# Altium schematic symbol library Power_Lib_Altium.SchLib: 142 symbols (part 1 of 2)
Pins are listed as number, name and electrical type; pins without a type are passive.

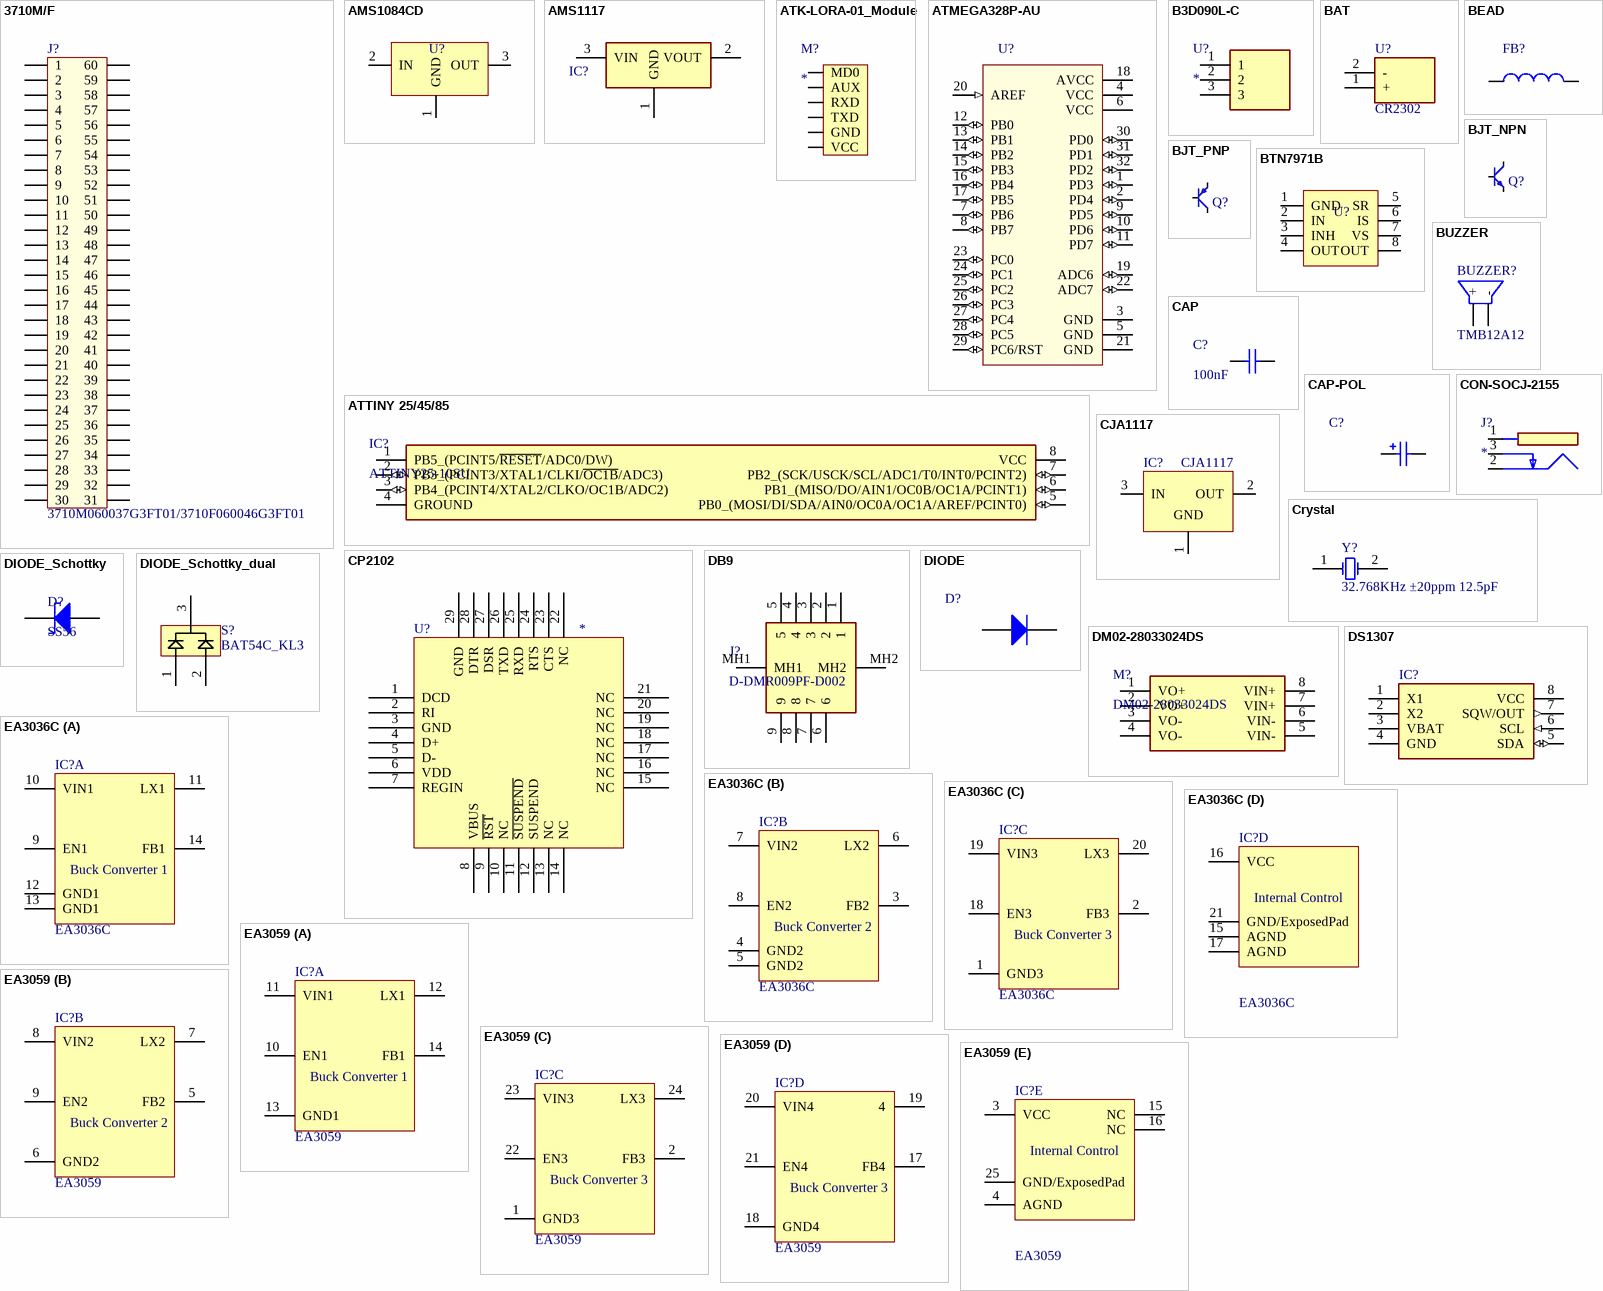
[diagram p0: symbols 3710M/F to EA3059]

## 3710M/F
designator J?, comment 3710M060037G3FT01/3710F060046G3FT01
B2B Connector
footprint 3710M060037G3FT01
footprint 3710F060046G3FT01
pins: 1, 2, 3, 4, 5, 6, 7, 8, 9, 10, 11, 12, 13, 14, 15, 16, 17, 18, 19, 20, 21, 22, 23, 24, 25, 26, 27, 28, 29, 30, 31, 32, 33, 34, 35, 36, 37, 38, 39, 40, 41, 42, 43, 44, 45, 46, 47, 48, 49, 50, 51, 52, 53, 54, 55, 56, 57, 58, 59, 60

## AMS1084CD
designator U?  (value not drawn)
固定稳压输出（TO-252）
footprint TO-252 (贴片MOS管)
pins: 1 GND, 2 IN, 3 OUT

## AMS1117
designator IC?  (value not drawn)
线性稳压; Manufacturer_Name: Nexperia; Manufacturer_Part_Number: SI2302DS; Datasheet Link: https://assets.nexperia.com/documents/data-sheet/SI2302DS.pdf; Height: 1.1mm; Mouser Part Number: N/A; Mouser Price/Stock: https://www.mouser.com/Search/Refine.aspx?Keyword=N%2FA; RS Part Number: 7983053P; RS Price/Stock: http://uk.rs-online.com/web/p/products/7983053P
footprint SOT-223
pins: 1 GND, 2 VOUT, 3 VIN

## ATK-LORA-01_Module
designator M?
正点原子Lora模块
footprint ATK-LORA-01_Module (正点原子Lora模块)
pins: 1 MD0, 2 AUX, 3 RXD, 4 TXD, 5 GND, 6 VCC

## ATMEGA328P-AU
designator U?  (value not drawn)
微控制器, 8 Bit, Atmega, 20mhz, Tqfp-32; MF: Microchip; MP: ATMEGA328P-AU; SnapEDA_Link: https://www.snapeda.com/parts/ATMEGA328P-AU/Microchip/view-part/?ref=snap; Availability: Unavailable; Price: None; Package: TQFP-32 Microchip; Value: *
footprint TQFP-32_7x7x08P
pins: 1 PD3 (io), 2 PD4 (io), 3 GND (power), 4 VCC (power), 5 GND (power), 6 VCC (power), 7 PB6 (io), 8 PB7 (io), 9 PD5 (io), 10 PD6 (io), 11 PD7 (io), 12 PB0 (io), 13 PB1 (io), 14 PB2 (io), 15 PB3 (io), 16 PB4 (io), 17 PB5 (io), 18 AVCC (power), 19 ADC6 (io), 20 AREF (in), 21 GND (power), 22 ADC7 (io), 23 PC0 (io), 24 PC1 (io), 25 PC2 (io), 26 PC3 (io), 27 PC4 (io), 28 PC5 (io), 29 PC6/RST (io), 30 PD0 (io), 31 PD1 (io), 32 PD2 (io)

## ATTINY 25/45/85
designator IC?, comment ATTINY25-10SU
主控芯片; Manufacturer_Name: Microchip; Manufacturer_Part_Number: ATTINY85-20PU; Datasheet Link: https://componentsearchengine.com/Datasheets/2/ATTINY85-20PU.pdf; Height: 5.334mm; Mouser Part Number: 556-ATTINY85-20PU; Mouser Price/Stock: https://www.mouser.com/Search/Refine.aspx?Keyword=556-ATTINY85-20PU; RS Part Number: 1331672P; RS Price/Stock: http://uk.rs-online.com/web/p/products/1331672P
footprint DIP-8
footprint SOIC_8
pins: 1 PB5_(PCINT5/~{RESET}/ADC0/DW), 2 PB3_(PCINT3/XTAL1/CLKI/~{OC1B}/ADC3) (io), 3 PB4_(PCINT4/XTAL2/CLKO/OC1B/ADC2) (io), 4 GROUND (power), 5 PB0_(MOSI/DI/SDA/AIN0/OC0A/OC1A/AREF/PCINT0) (io), 6 PB1_(MISO/DO/AIN1/OC0B/OC1A/PCINT1) (io), 7 PB2_(SCK/USCK/SCL/ADC1/T0/INT0/PCINT2) (io), 8 VCC (power)

## B3D090L-C
designator U?
放电管; Manufacturer_Name: Bencent; Manufacturer_Part_Number: B3D090L-C; Datasheet Link: http://www.bencent.com.cn/index/xiazai/name/_pdf_B3D090L-C.pdf; Height: 6.1mm
footprint B3D090LC
pins: 1, 2, 3

## BAT
designator U?, comment CR2302
锂电池; Manufacturer_Name: Keystone Electronics; Manufacturer_Part_Number: 1026; Allied_Number: 70182086; Datasheet Link: http://www.keyelco.com/product-pdf.cfm?p=721; Mouser Part Number: 534-1026; Mouser Price/Stock: https://www.mouser.com/Search/Refine.aspx?Keyword=534-1026; RS Part Number: 1142133; RS Price/Stock: http://uk.rs-online.com/web/p/products/1142133; Allied Price/Stock: http://www.alliedelec.com/keystone-electronics-1026/70182086/
footprint CR2032-1
pins: 1 +, 2 -

## BEAD
designator FB?, comment 120R@100MHz  (value not drawn)
BLM15AG121SN1D; ComponentLink1Description: 供应商链接; ComponentLink1URL: http://www.szlcsc.com/product/details_33003.html; Package: 0402; Supplier: LC; SuppliersPartNumber: C32041
footprint L-0603
footprint R-0402
footprint CAP-0402
pins: 1, 2

## BJT_NPN
designator Q?, comment S8050  (value not drawn)
晶体管
footprint SOT-23-3
pins: 1 B, 2 E, 3 C

## BJT_PNP
designator Q?
晶体管
footprint SOT-23-3
pins: 1 B, 2 E, 3 C

## BTN7971B
designator U?  (value not drawn)
半桥 MOS
footprint TO-263-7
pins: 1 GND, 2 IN, 3 INH, 4 OUT, 5 SR, 6 IS, 7 VS, 8 OUT

## BUZZER
designator BUZZER?, comment TMB12A12
TMB12A12 有源蜂鸣器
footprint DIP,P=7.0mm
footprint DIP,P=7.6mm
pins: 1 +, 2 -

## CAP
designator C?, comment 100nF
贴片电容; ComponentLink1Description: 供应商链接; ComponentLink1URL: http://www.szlcsc.com/product/details_53938.html; Package: 0402; Supplier: LC; SuppliersPartNumber: C52923
footprint CAP-0603
footprint CAP-0805
footprint CAP-1206 (贴片元件)
footprint CAP-1210 (贴片电容)
footprint CAP-5750
footprint CAP-2220
footprint CAP-0402
pins: 1, 2

## CAP-POL
designator C?, comment 100nF  (value not drawn)
贴片电容-有极性; ComponentLink1Description: 供应商链接; ComponentLink1URL: http://www.szlcsc.com/product/details_16815.html; Package: 3528; Supplier: LC; SuppliersPartNumber: C16133
footprint CAP-AUX-3216 (钽电容1206大小)
footprint CAP-AUX-7343 (贴片7343钽电容)
footprint C_SMD-6X6
footprint C_SMD-8X6
footprint C_SMD-8X10
footprint C_SMD-10x10
footprint C_SMD-10x13
footprint CASE-B_3528
footprint CASE-C_6032
footprint CAP-2.5*6.3*11.2-H - GD (脚距2.5mm直径6.3mm高度11.2mm)
footprint CM D(6.3*5.4) (贴片电解电容，直径6.3mm，高5.4mm)
footprint CS 2.5*6.3*7 - C (½Å¾à2.5mm , Ö±¾¶6.3mm , ¸ß7mm)
footprint CS 5.0*10*13 - C (½Å¾à5mm , Ö±¾¶10mm , ¸ß13mm)
pins: 1, 2

## CJA1117
designator IC?
稳压芯片
footprint SOT-89-3
pins: 1 GND, 2 OUT, 3 IN

## CON-SOCJ-2155
designator J?
Connector; Manufacturer_Name: Gravitech; Manufacturer_Part_Number: CON-SOCJ-2155; Datasheet Link: http://www.produktinfo.conrad.com/datenblaetter/1500000-1599999/001582350-da-01-en-DC_EINBAUBUCHSE__SCHALTER_GESCHLOSSEN.pdf; Height: 11mm; Mouser Part Number: 992-CON-SOCJ-2155; Mouser Price/Stock: https://www.mouser.com/Search/Refine.aspx?Keyword=992-CON-SOCJ-2155
footprint CONSOCJ2155
pins: 1, 2, 3

## CP2102
designator U?
USB to UART
footprint QFN28
pins: 1 DCD, 2 RI, 3 GND, 4 D+, 5 D-, 6 VDD, 7 REGIN, 8 VBUS, 9 ~{RST}, 10 NC, 11 ~{SUSPEND}, 12 SUSPEND, 13 NC, 14 NC, 15 NC, 16 NC, 17 NC, 18 NC, 19 NC, 20 NC, 21 NC, 22 NC, 23 CTS, 24 RTS, 25 RXD, 26 TXD, 27 DSR, 28 DTR, 29 GND

## Crystal
designator Y?, comment 32.768KHz ±20ppm 12.5pF
无源晶振; ComponentLink1Description: 供应商链接; ComponentLink1URL: http://www.szlcsc.com/product/details_33310.html; Package: SMD-3215_2P; Supplier: LC; SuppliersPartNumber: C32346
footprint SMD-3215_2P FC - 135
footprint SMD5032-2P
pins: 1 OSC1, 2 OSC2

## DB9
designator J?, comment D-DMR009PF-D002
D-Sub 连接器; Manufacturer_Name: TE Connectivity; Manufacturer_Part_Number: 5747844-5; Datasheet Link: http://www.te.com/commerce/DocumentDelivery/DDEController?Action=srchrtrv&DocNm=82068_AMPLIMITE_Right-Angle_Posted_Conn&DocType=Catalog+Section&DocLang=English&PartCntxt=; Height: 12.9286mm; Mouser Part Number: 571-5747844-5; Mouser Price/Stock: https://www.mouser.co.uk/ProductDetail/TE-Connectivity/5747844-5?qs=x6EjVpvqMVPrkQsJHUlJGw%3D%3D; Arrow Part Number: 5747844-5; Arrow Price/Stock: https://www.arrow.com/en/products/5747844-5/te-connectivity
footprint Through Hole,P=2.77mm
pins: 1, 2, 3, 4, 5, 6, 7, 8, 9, MH1, MH2

## DIODE
designator D?, comment SS14  (value not drawn)
二极管; ComponentLink1Description: 供应商链接; ComponentLink1URL: http://www.szlcsc.com/product/details_23178.html; Package: SMA(DO-214AC); Supplier: LC; SuppliersPartNumber: C22452
footprint SOD_123
footprint DO-214AA/SMB
footprint DO-214AB/SMC
footprint DO-214AC/SMA
footprint SOD_323
pins: 1 A, 2 K

## DIODE_Schottky
designator D?, comment SS56
肖特基二极管
footprint DO-214AB/SMC
pins: 1 A, 2 K

## DIODE_Schottky_dual
designator S?, comment BAT54C_KL3
双肖特基二极管
footprint SOT-23-3
pins: 1, 2, 3

## DM02-28033024DS
designator M?
集成稳压模块 / https://item.taobao.com/item.htm?spm=a1z10.3-c-s.w4002-22292591445.10.2a59194fEhZETQ&id=535347655147
footprint DM02-28033024DS
pins: 1 VO+, 2 VO+, 3 VO- (power), 4 VO- (power), 5 VIN-, 6 VIN-, 7 VIN+, 8 VIN+ (power)

## DS1307
designator IC?  (value not drawn)
Integrated Circuit; Manufacturer_Name: Maxim Integrated; Manufacturer_Part_Number: DS1307+; Datasheet Link: http://datasheets.maximintegrated.com/en/ds/DS1307.pdf; Height: 4.572mm; Mouser Part Number: 700-DS1307; Mouser Price/Stock: https://www.mouser.com/Search/Refine.aspx?Keyword=700-DS1307; RS Part Number: 1898457; RS Price/Stock: http://uk.rs-online.com/web/p/products/1898457
footprint SOIC_8
pins: 1 X1, 2 X2, 3 VBAT (power), 4 GND (power), 5 SDA (io), 6 SCL (in), 7 SQW/OUT (out), 8 VCC (power)

## EA3036C
designator IC?
EA3036 is a 3CH power management IC for applications powered by one Li-Ion battery or a DC 5V adapter.
footprint QFN3mmx3mm-20
part A pins: 9 EN1 "CH1 turns on/turns off control input. Don’t leave this pin floating.", 10 VIN1 (power) "Power input pin of CH1. Recommended to use a 10uF MLCC capacitor between VIN1 pin and GND1 pin.", 11 LX1 "Internal MOSFET switching output of CH1. Connect LX1 pin with a low pass filter circuit to obtain a stable DC output voltage.", 12 GND1 (power) "Power ground pin of CH1.", 13 GND1 (power) "Power ground pin of CH1.", 14 FB1 "Feedback input of CH1. Connect to output voltage with a resistor divider."
part B pins: 3 FB2 "Feedback input of CH2. Connect to output voltage with a resistor divider.", 4 GND2 (power) "Power ground pin of CH2.", 5 GND2 (power) "Power ground pin of CH2.", 6 LX2 "Internal MOSFET switching output of CH2. Connect LX2 pin with a low pass filter circuit to obtain a stable DC output voltage.", 7 VIN2 (power) "Power input pin of CH2. Recommended to use a 10uF MLCC capacitor between VIN2 pin and GND2 pin.", 8 EN2 "CH2 turns on/turns off control input. Don’t leave this pin floating."
part C pins: 1 GND3 (power) "Power ground pin of CH3.", 2 FB3 "Feedback input of CH3. Connect to output voltage with a resistor divider.", 18 EN3 "CH3 turns on/turns off control input. Don’t leave this pin floating.", 19 VIN3 (power) "Power input pin of CH3. Recommended to use a 10uF MLCC capacitor between VIN3 pin and GND3 pin.", 20 LX3 "Internal MOSFET switching output of CH3. Connect SW3 pin with a low pass filter circuit to obtain a stable DC output voltage."
part D pins: 15 AGND (power) "Analog ground pin.", 16 VCC (power) "Input supply pin for internal control circuit.", 17 AGND (power) "Analog ground pin.", 21 GND/ExposedPad (power) "The Exposed Pad must be soldered to a large PCB copper plane and connected to GND for appropriate dissipation."
part A text: Buck Converter 1
part B text: Buck Converter 2
part C text: Buck Converter 3
part D text: Internal Control

## EA3059
designator IC?
4CH PMIC
footprint QFN-24-4x4 (QFN, 24-Leads, Body 4.00x4.00mm, Pitch 0.50mm, Thermal Pad 2.70x2.60mm, IPC Medium Density)
part A pins: 10 EN1 "CH1 turns on/turns off control input. Don’t leave this pin floating.", 11 VIN1 (power) "Power input pin of CH1. Recommended to use a 10uF MLCC capacitor between VIN1 pin and GND1 pin.", 12 LX1 "Internal MOSFET switching output of CH1. Connect LX1 pin with a low pass filter circuit to obtain a stable DC output voltage.", 13 GND1 (power) "Power ground pin of CH1.", 14 FB1 "Feedback input of CH1. Connect to output voltage with a resistor divider."
part B pins: 5 FB2 "Feedback input of CH2. Connect to output voltage with a resistor divider.", 6 GND2 (power) "Power ground pin of CH2.", 7 LX2 "Internal MOSFET switching output of CH2. Connect LX2 pin with a low pass filter circuit to obtain a stable DC output voltage.", 8 VIN2 (power) "Power input pin of CH2. Recommended to use a 10uF MLCC capacitor between VIN2 pin and GND2 pin.", 9 EN2 "CH2 turns on/turns off control input. Don’t leave this pin floating."
part C pins: 1 GND3 (power) "Power ground pin of CH3.", 2 FB3 "Feedback input of CH3. Connect to output voltage with a resistor divider.", 22 EN3 "CH3 turns on/turns off control input. Don’t leave this pin floating.", 23 VIN3 (power) "Power input pin of CH3. Recommended to use a 10uF MLCC capacitor between VIN3 pin and GND3 pin.", 24 LX3 "Internal MOSFET switching output of CH3. Connect SW3 pin with a low pass filter circuit to obtain a stable DC output voltage."
part D pins: 17 FB4 "Feedback input of CH3. Connect to output voltage with a resistor divider.", 18 GND4 (power) "Power ground pin of CH3.", 19 4 "Internal MOSFET switching output of CH3. Connect SW3 pin with a low pass filter circuit to obtain a stable DC output voltage.", 20 VIN4 (power) "Power input pin of CH3. Recommended to use a 10uF MLCC capacitor between VIN3 pin and GND3 pin.", 21 EN4 "CH3 turns on/turns off control input. Don’t leave this pin floating."
part E pins: 3 VCC (power) "Input supply pin for internal control circuit.", 4 AGND (power) "Analog ground pin.", 15 NC (power) "Analog ground pin.", 16 NC (power) "Analog ground pin.", 25 GND/ExposedPad (power) "The Exposed Pad must be soldered to a large PCB copper plane and connected to GND for appropriate dissipation."
part A text: Buck Converter 1
part B text: Buck Converter 2
part C text: Buck Converter 3
part D text: Buck Converter 3
part E text: Internal Control

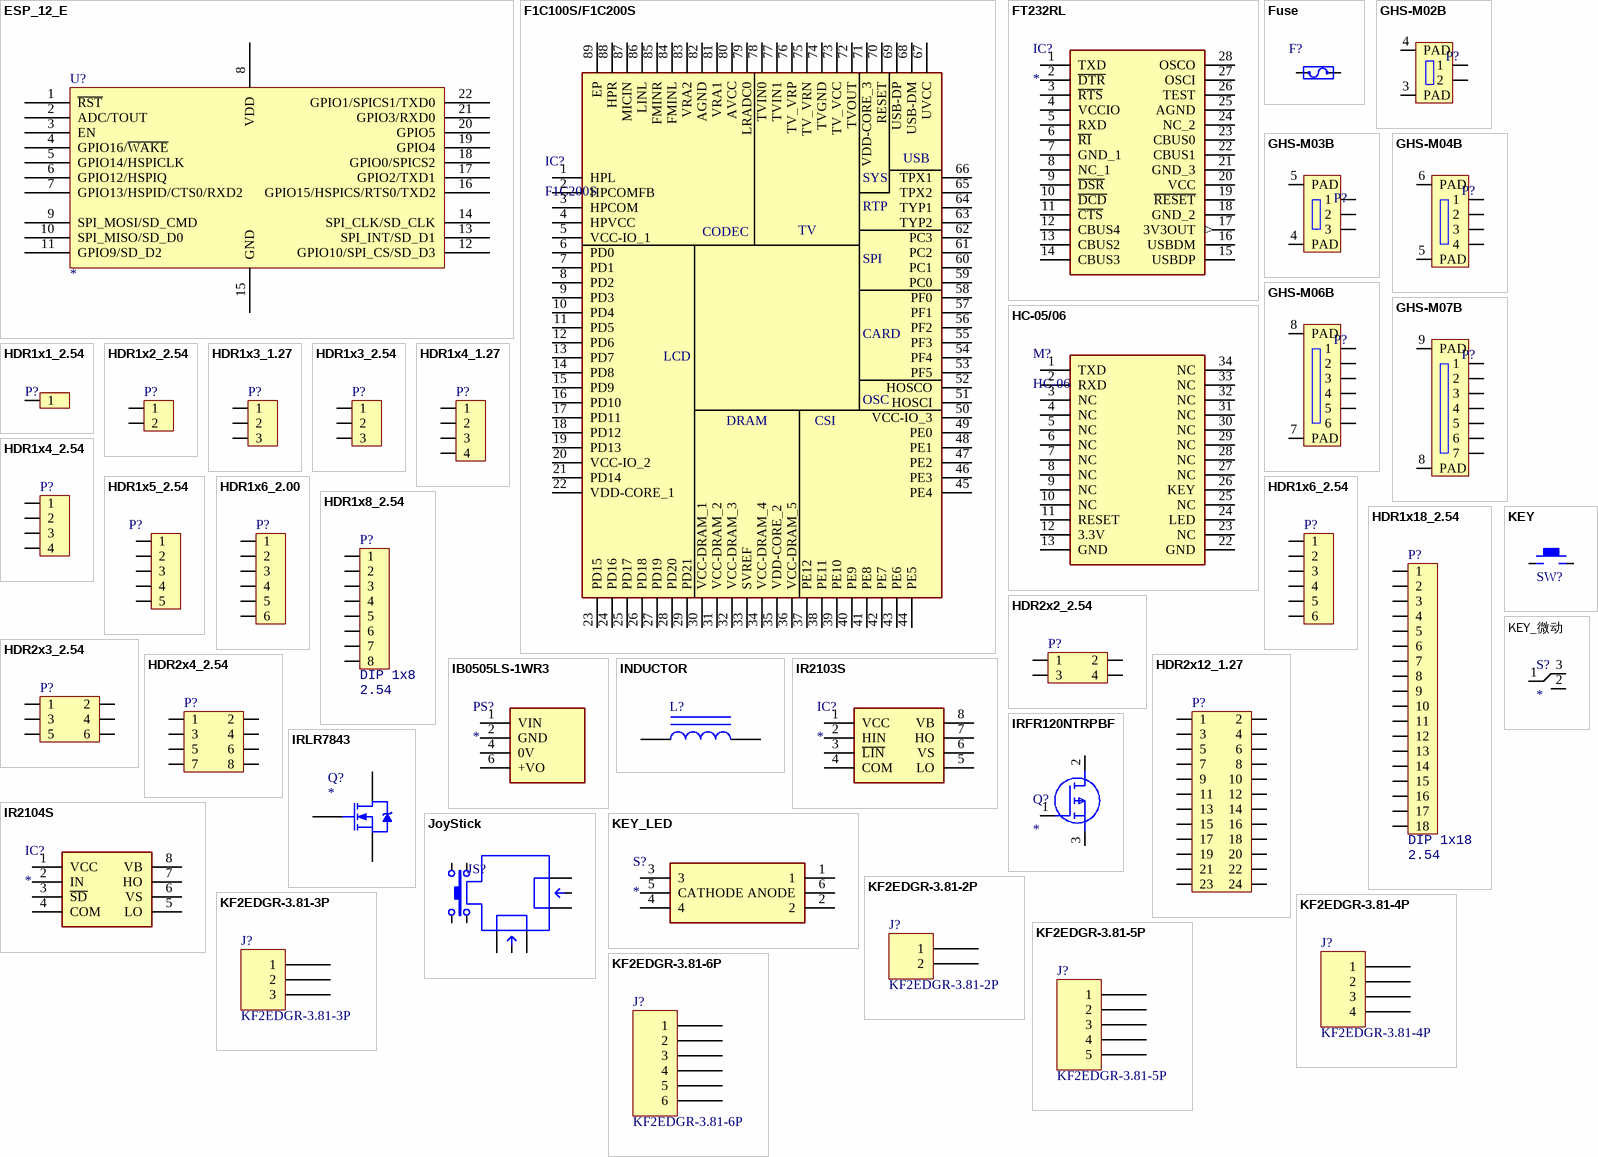
[diagram p1: symbols ESP_12_E to KF2EDGR-3.81-6P]

## ESP_12_E
designator U?
ESP-12 Wi-Fi Module by AI-Thinker; IC: ESP8266-EX; Vendor: Ai-thinker
footprint ESP_12_E_L (ESP-12 Wi-Fi Module by AI-Thinker)
pins: 1 ~{RST} "Reset", 2 ADC/TOUT "ADC Input Or TOUT Output", 3 EN "Chip enable", 4 GPIO16/~{WAKE} "GPIO16 or Deep-Sleep Wakeup", 5 GPIO14/HSPICLK "GPIO14 or SPI CLK", 6 GPIO12/HSPIQ "GPIO12 or SPIQ", 7 GPIO13/HSPID/CTS0/RXD2 "GPIO13 or SPID", 8 VDD "Power supply", 9 SPI_MOSI/SD_CMD "GPIO14 or SPI CLK", 10 SPI_MISO/SD_D0 "GPIO12 or SPIQ", 11 GPIO9/SD_D2 "GPIO13 or SPID", 12 GPIO10/SPI_CS/SD_D3 "GPIO15 or SPICS", 13 SPI_INT/SD_D1 "GPIO2 or TX", 14 SPI_CLK/SD_CLK "GPIO0 or SPICS2", 15 GND "Power ground", 16 GPIO15/HSPICS/RTS0/TXD2 "GPIO15 or SPICS", 17 GPIO2/TXD1 "GPIO2 or TX", 18 GPIO0/SPICS2 "GPIO0 or SPICS2", 19 GPIO4 "GPIO5", 20 GPIO5 "GPIO4", 21 GPIO3/RXD0 "GPIO3 or UART RXD", 22 GPIO1/SPICS1/TXD0 "GPIO1 or UART TXD"

## F1C100S/F1C200S
designator IC?, comment F1C200S
SOC; Manufacturer_Name: Allwinner Technology; Datasheet Link: https://linux-sunxi.org/images/1/11/Allwinner_F1C200s_Datasheet_V1.0.pdf; Height: 0.9mm; Manufacturer_Part_Number: F1C200S
footprint QFN88P_10X10mm
pins: 1 HPL, 2 HPCOMFB, 3 HPCOM, 4 HPVCC, 5 VCC-IO_1, 6 PD0, 7 PD1, 8 PD2, 9 PD3, 10 PD4, 11 PD5, 12 PD6, 13 PD7, 14 PD8, 15 PD9, 16 PD10, 17 PD11, 18 PD12, 19 PD13, 20 VCC-IO_2, 21 PD14, 22 VDD-CORE_1, 23 PD15, 24 PD16, 25 PD17, 26 PD18, 27 PD19, 28 PD20, 29 PD21, 30 VCC-DRAM_1, 31 VCC-DRAM_2, 32 VCC-DRAM_3, 33 SVREF, 34 VCC-DRAM_4, 35 VDD-CORE_2, 36 VCC-DRAM_5, 37 PE12, 38 PE11, 39 PE10, 40 PE9, 41 PE8, 42 PE7, 43 PE6, 44 PE5, 45 PE4, 46 PE3, 47 PE2, 48 PE1, 49 PE0, 50 VCC-IO_3, 51 HOSCI, 52 HOSCO, 53 PF5, 54 PF4, 55 PF3, 56 PF2, 57 PF1, 58 PF0, 59 PC0, 60 PC1, 61 PC2, 62 PC3, 63 TYP2, 64 TYP1, 65 TPX2, 66 TPX1, 67 UVCC, 68 USB-DM, 69 USB-DP, 70 RESET, 71 VDD-CORE_3, 72 TVOUT, 73 TV_VCC, 74 TVGND, 75 TV_VRN, 76 TV_VRP, 77 TVIN1, 78 TVIN0, 79 LRADC0, 80 AVCC, 81 VRA1, 82 AGND, 83 VRA2, 84 FMINL, 85 FMINR, 86 LINL, 87 MICIN, 88 HPR, 89 EP
text: USB; SYS; RTP; CODEC; TV; SPI; CARD; LCD; OSC; DRAM; CSI

## FT232RL
designator IC?
USB to UART; Manufacturer_Name: FTDI Chip; Manufacturer_Part_Number: FT232RL; Datasheet Link: http://www.ftdichip.com/Support/Documents/DataSheets/ICs/DS_FT232R.pdf; Height: 2mm; RS Part Number: 0406580P; RS Price/Stock: http://uk.rs-online.com/web/p/products/0406580P
footprint SSOP
pins: 1 TXD, 2 ~{DTR}, 3 ~{RTS}, 4 VCCIO (power), 5 RXD, 6 ~{RI}, 7 GND_1 (power), 8 NC_1, 9 ~{DSR}, 10 ~{DCD}, 11 ~{CTS}, 12 CBUS4, 13 CBUS2, 14 CBUS3, 15 USBDP, 16 USBDM, 17 3V3OUT (out), 18 GND_2 (power), 19 ~{RESET}, 20 VCC (power), 21 GND_3 (power), 22 CBUS1, 23 CBUS0, 24 NC_2, 25 AGND (power), 26 TEST, 27 OSCI, 28 OSCO

## Fuse
designator F?  (value not drawn)
保险丝
footprint Fuse_0805 (500mA保险丝)
footprint FUSE_1206
footprint R-0603
footprint FUSE_1808 (1808/2410保险丝座)
pins: 1, 2

## GHS-M02B
designator P?, comment GH02  (value not drawn)
GH 座
footprint BM02B-GHS-TBT (GH02立式)
footprint SM02B-GHS-TB (GH02卧式)
pins: 1, 2, 3 PAD, 4 PAD

## GHS-M03B
designator P?, comment GH03  (value not drawn)
GH座
footprint BM03B-GHS-TBT (GH03立式)
footprint SM03B-GHS-TB (GH03卧式)
pins: 1, 2, 3, 4 PAD, 5 PAD

## GHS-M04B
designator P?, comment GH04  (value not drawn)
GH 座
footprint BM04B-GHS-TBT (GH04立式)
footprint SM04B-GHS-TB (GH04卧式)
pins: 1, 2, 3, 4, 5 PAD, 6 PAD

## GHS-M06B
designator P?, comment GH06  (value not drawn)
GH 座
footprint BM06B-GHS-TBT (GH06立式)
footprint SM06B-GHS-TB (GH06卧式)
pins: 1, 2, 3, 4, 5, 6, 7 PAD, 8 PAD

## GHS-M07B
designator P?, comment GH07  (value not drawn)
GH 座
footprint BM07B-GHS-TBT (Footprint not found)
footprint SM07B-GHS-TB (GH07卧式)
pins: 1, 2, 3, 4, 5, 6, 7, 8 PAD, 9 PAD

## HC-05/06
designator M?, comment HC-06
HC05/06 蓝牙模块（贴片）; Manufacturer_Name: FTDI Chip; Manufacturer_Part_Number: FT232RL; Datasheet Link: http://www.ftdichip.com/Support/Documents/DataSheets/ICs/DS_FT232R.pdf; Height: 2mm; RS Part Number: 0406580P; RS Price/Stock: http://uk.rs-online.com/web/p/products/0406580P
footprint HC-05/06/08V15
pins: 1 TXD, 2 RXD, 3 NC, 4 NC (power), 5 NC, 6 NC, 7 NC (power), 8 NC, 9 NC, 10 NC, 11 RESET, 12 3.3V, 13 GND, 22 GND, 23 NC, 24 LED, 25 NC, 26 KEY, 27 NC, 28 NC, 29 NC, 30 NC, 31 NC, 32 NC, 33 NC, 34 NC

## HDR1x1_2.54
designator P?, comment HDR1x2_2.54  (value not drawn)
Header
footprint HDR1X1_2.54
pins: 1

## HDR1x2_2.54
designator P?  (value not drawn)
Header
footprint HDR1X2_2.54_90
footprint HDR1X2_2.54_90F
footprint HDR1X2_2.54_180
footprint HDR1X2_2.54_180F
footprint HDR1X2_2.54_180H
footprint HDR1X2_2.54_180HD
pins: 1, 2

## HDR1x3_1.27
designator P?  (value not drawn)
Header
footprint HDR1X3_1.27_180
footprint HDR1X3_1.27_180HF
pins: 1, 2, 3

## HDR1x3_2.54
designator P?  (value not drawn)
Header
footprint HDR1X3_2.54_90
footprint HDR1X3_2.54_90F
footprint HDR1X3_2.54_180
footprint HDR1X3_2.54_180F
footprint XH_3
footprint XH_3-sleep
footprint XH3AW
pins: 1, 2, 3

## HDR1x4_1.27
designator P?  (value not drawn)
Header
footprint HDR1X4_1.27_180
footprint HDR1X4_1.27_180F
footprint HDR1X4_1.27_180H
footprint HDR1X4_1.27_180HF
pins: 1, 2, 3, 4

## HDR1x4_2.54
designator P?  (value not drawn)
Header
footprint HDR1X4_2.54_90
footprint HDR1X4_2.54_90F
footprint HDR1x4_2.54_180
footprint HDR1X4_2.54_180F (Footprint not found)
footprint HDR1X4_2.54_180H
footprint XH_4
footprint XH_4-sleep
footprint XH4AW
footprint HDR1X4_2.54
pins: 1, 2, 3, 4

## HDR1x5_2.54
designator P?, comment HDR1x5  (value not drawn)
Header; Manufacturer_Name: FCI Electronics; Manufacturer_Part_Number: 10129378-905001BLF; Datasheet Link: https://cdn.amphenol-icc.com/media/wysiwyg/files/drawing/10129378.pdf; Height: 8.58mm; Mouser Part Number: 649-1012937890501BLF; Mouser Price/Stock: https://www.mouser.com/Search/Refine.aspx?Keyword=649-1012937890501BLF
footprint HDR1X5_2.54_180
footprint HDR1X5_2.54_180_BLANK
pins: 1, 2, 3, 4, 5

## HDR1x6_2.00
designator P?, comment HDR1x6  (value not drawn)
Header
footprint HDR1X6_2.0_180F
pins: 1, 2, 3, 4, 5, 6

## HDR1x6_2.54
designator P?, comment HDR1x6  (value not drawn)
Header
footprint HDR1X6_2.54_180
pins: 1, 2, 3, 4, 5, 6

## HDR1x8_2.54
designator P?, comment value 2.54  (hidden comment: DIP 1x8)
Header; Type: DIP 1x8
footprint HDR1X8_2.54_90 (Footprint not found)
footprint HDR1X8_2.54_90F (Footprint not found)
footprint HDR1X8_2.54_180
footprint HDR1X8_2.54_180F
footprint HDR1X8_2.54_180S
pins: 1, 2, 3, 4, 5, 6, 7, 8

## HDR1x18_2.54
designator P?, comment value 2.54  (hidden comment: DIP 1x18)
Header; Type: DIP 1x18
footprint HDR1X18_2.54_180
pins: 1, 2, 3, 4, 5, 6, 7, 8, 9, 10, 11, 12, 13, 14, 15, 16, 17, 18

## HDR2x2_2.54
designator P?  (value not drawn)
Header
footprint HDR2X2_2.54_90
footprint HDR2X2_2.54_90F
footprint HDR2X2_2.54_180
footprint HDR2X2_2.54_180F
footprint HDR2X2_2.54_180H
pins: 1, 2, 3, 4

## HDR2x3_2.54
designator P?  (value not drawn)
Header
footprint HDR2X3_2.54_90
footprint HDR2X3_2.54_90F
footprint HDR2X3_2.54_180
footprint HDR2X3_2.54_180F
footprint HDR2X3_2.54_180H
pins: 1, 2, 3, 4, 5, 6

## HDR2x4_2.54
designator P?  (value not drawn)
Header
footprint HDR2X4_2.54_90
footprint HDR2X4_2.54_90F (Footprint not found)
footprint HDR2X4_2.54_180
footprint HDR2X4_2.54_180F
footprint HDR2X4_2.54_180H
footprint HDR2X4_2.54_180HF
pins: 1, 2, 3, 4, 5, 6, 7, 8

## HDR2x12_1.27
designator P?  (value not drawn)
Header
footprint HDR2X12_2.54_180
footprint HDR2X12_2.54_180HF
footprint HDR2X12_1.27_180HF
footprint HDR2X12_2.54_180F
footprint HDR2X12_1.27_180HF
pins: 1, 2, 3, 4, 5, 6, 7, 8, 9, 10, 11, 12, 13, 14, 15, 16, 17, 18, 19, 20, 21, 22, 23, 24

## IB0505LS-1WR3
designator PS?
隔离电源; Manufacturer_Name: Mornsun; Manufacturer_Part_Number: IB0505LS-1WR3; Datasheet Link: https://cms.nacsemi.com/content/AuthDatasheets/Mornsun/IB05_LS-1WR3.pdf; Height: 10.41mm
footprint SIP
pins: 1 VIN, 2 GND, 4 0V, 6 +VO

## INDUCTOR
designator L?, comment 10uH  (value not drawn)
电感; ComponentLink1Description: 供应商链接; ComponentLink1URL: http://www.szlcsc.com/product/details_33003.html; Package: 0402; Supplier: LC; SuppliersPartNumber: C32041
footprint L-0805
footprint L-0603
footprint SMD-13.45x12.6x4.8mm
footprint XAL6060-103MEB
footprint L_ThroughHole
footprint SMD_7.3x7.3x4.2mm
footprint SMD_4.0x4.0x3.0mm
footprint 0420
footprint L-10040 (10.1*11.6*4.0MM(长*宽*高))
footprint L-12x12x7
footprint L-0630 (7*6.6*2.8MM(长*宽*高))
footprint L-2520
footprint L-1008
pins: 1, 2

## IR2103S
designator IC?
Integrated Circuit; Manufacturer_Name: International Rectifier; Manufacturer_Part_Number: IR2103SPBF; Datasheet Link: https://www.infineon.com/dgdl/ir2103.pdf?fileId=5546d462533600a4015355c7b54b166f; Height: 1.75mm
footprint SOIC_8
pins: 1 VCC, 2 HIN, 3 ~{LIN}, 4 COM, 5 LO, 6 VS, 7 HO, 8 VB

## IR2104S
designator IC?
Integrated Circuit; Manufacturer_Name: Infineon; Manufacturer_Part_Number: IR2104S; Datasheet Link: http://www.infineon.com/dgdl/ir2104.pdf?fileId=5546d462533600a4015355c7c1c31671; Height: 1.75mm
footprint SOIC_8
pins: 1 VCC, 2 IN, 3 ~{SD}, 4 COM, 5 LO, 6 VS, 7 HO, 8 VB

## IRFR120NTRPBF
designator Q?
MOSFET (P-Channel); Manufacturer_Name: Infineon; Manufacturer_Part_Number: IRFR120NTRPBF; Datasheet Link: https://www.infineon.com/dgdl/irfr5305pbf.pdf?fileId=5546d462533600a401535632522820ff; Height: 2.39mm; Mouser Part Number: 942-IRFR120NTRPBF; Mouser Price/Stock: https://www.mouser.co.uk/ProductDetail/Infineon-IR/IRFR120NTRPBF?qs=XgnB68EmdM2WxBLw27yKPA%3D%3D; Arrow Part Number: IRFR120NTRPBF; Arrow Price/Stock: https://www.arrow.com/en/products/irfr120ntrpbf/infineon-technologies-ag
footprint TO-252AA
pins: 1 G, 2 D, 3 S

## IRLR7843
designator Q?
HEXFET Power MOSFET; Note: Pin 2 is trimmed and is electrically connected to Drain.; Published: 8-Jun-2000; LatestRevisionDate: 20-Nov-2009; LatestRevisionNote: IPC-7351 Footprint Added.; DatasheetVersion: PD-91318B; PackageVersion: Feb-2003; PackageReference: TO-252AA; Publisher: Altium Limited; PackageDescription: 3-Pin HEXFET Package 2.28 mm Pitch, 9.9 mm Lead Span; Code_JEDEC: TO-252-AA; ComponentLink1Description: Manufacturer Link; ComponentLink1URL: http://www.irf.com/; ComponentLink2Description: Datasheet; ComponentLink2URL: http://www.irf.com/product-info/datasheets/data/irfr1205.pdf
footprint TO-252 (贴片MOS管)
pins: 1 G, 3 S, 4 D

## JoyStick
designator JS?  (value not drawn)
摇杆
footprint JoyStick
pins: 1, 2, 3, 4, 5, 6, 7, 8, 9, 10

## KEY
designator SW?  (value not drawn)
按键开关
footprint KEY_M (KEY_MID)
footprint KEY_2 (KEY?)
footprint KEY_SOP_BG (KEY?)
footprint KEY 侧式 (按键 贴片 侧式)
footprint KEY_2S
footprint KEY-1-2
footprint KEY-4P-4.2*3.4*2.5 (SKRPABE010)
footprint KEY_12*12*7.3 (轻触开关 B3F-4055)
footprint KEY_直插侧式_优信
pins: 1, 2

## KEY_LED
designator S?
Switch; Manufacturer_Name: Mountain Switch; Manufacturer_Part_Number: 101-TS5511T16002B-EV; Datasheet Link: https://www.mouser.com/datasheet/2/209/joytech_01292019_MS-100627-1528095.pdf; Height: 7mm; Mouser Part Number: 101-TS5511T16002B-EV; Mouser Price/Stock: https://www.mouser.com/Search/Refine.aspx?Keyword=101-TS5511T16002B-EV
footprint KEY-6X6-LED
pins: 1, 2, 3, 4, 5 CATHODE, 6 ANODE

## KEY_微动
designator S?
footprint KEY_微动
pins: 1, 2, 3

## KF2EDGR-3.81-2P
designator J?
TERM BLOCK HDR 2POS 90DEG 3.81MM; Part Number: OQ0232510000G; Manufacturer: Amphenol Anytek; Manufacturer: Amphenol; Number of Levels: 1; Number of Positions: 2; Header Orientation: 90°, Right Angle; Current - UL: 10A; Pitch: 0.150" (3.81mm); Voltage - UL: 300V; Lifecycle Status: 0; ComponentLink1Description: Datasheet; Series: 06-381; Color: Green; Termination Style: Solder; Minimum Order: 1; Type: Header, Male Pins, Shrouded (4 Side); LastUpdated: 2019-12-16 19:14:30.110; Operating Temperature: -40°C ~ 115°C; Packaging: Bulk; ComponentLink1URL: http://portal.fciconnect.com/Comergent//fci/drawing/oqxx32x100j0g.pdf; Price: 0.49; Mounting Type: Through Hole; Positions Per Level: 2; Contact Mating Finish: Tin; Part Status: Active; Manufacturer Part Number: OQ0232510000G; Component Type: 接线端子
footprint FCI 06-381-2PIN (FCI Pluggable Terminal Block)
pins: 1, 2

## KF2EDGR-3.81-3P
designator J?
TERM BLOCK HDR 3POS 90DEG 3.81MM; Manufacturer: Amphenol Anytek; Part Number: OQ0332510000G; Current - UL: 10A; Positions Per Level: 3; Number of Levels: 1; Voltage - UL: 300V; Pitch: 0.150" (3.81mm); Header Orientation: 90°, Right Angle; ComponentLink1Description: Datasheet; Part Status: Active; Type: Header, Male Pins, Shrouded (4 Side); Contact Mating Finish: Tin; Termination Style: Solder; Minimum Order: 1; Series: 06-381; Lifecycle Status: 0; Operating Temperature: -40°C ~ 115°C; Color: Green; Packaging: Bulk; Number of Positions: 3; Price: 0.53; Mounting Type: Through Hole; LastUpdated: 2019-12-16 19:14:45.877; ComponentLink1URL: http://portal.fciconnect.com/Comergent//fci/drawing/oqxx32x100j0g.pdf; Manufacturer Part Number: OQ0332510000G; Component Type: 接线端子
footprint FCI 06-381-3PIN (FCI Pluggable Terminal Block)
pins: 1, 2, 3

## KF2EDGR-3.81-4P
designator J?
TERM BLOCK HDR 4POS 90DEG 3.81MM; Part Number: OQ0432510000G; Manufacturer: Amphenol Anytek; Voltage - UL: 300V; Header Orientation: 90°, Right Angle; Current - UL: 10A; Positions Per Level: 4; Pitch: 0.150" (3.81mm); Number of Levels: 1; Operating Temperature: -40°C ~ 115°C; Type: Header, Male Pins, Shrouded (4 Side); Contact Mating Finish: Tin; Minimum Order: 1; ComponentLink1Description: Datasheet; Color: Green; Series: 06-381; Lifecycle Status: 0; Mounting Type: Through Hole; Number of Positions: 4; Part Status: Active; Packaging: Bulk; Termination Style: Solder; LastUpdated: 2019-12-16 19:15:03.463; ComponentLink1URL: http://portal.fciconnect.com/Comergent//fci/drawing/oqxx32x100j0g.pdf; Price: 0.71; Manufacturer Part Number: OQ0432510000G; Component Type: 接线端子
footprint FCI 06-381-4PIN (FCI Pluggable Terminal Block)
pins: 1, 2, 3, 4

## KF2EDGR-3.81-5P
designator J?
TERM BLOCK HDR 5POS 90DEG 3.81MM; Manufacturer: Amphenol Anytek; Part Number: OQ0532510000G; Header Orientation: 90°, Right Angle; Current - UL: 10A; Pitch: 0.150" (3.81mm); Voltage - UL: 300V; Number of Positions: 5; Number of Levels: 1; Minimum Order: 1; Color: Green; Packaging: Bulk; Part Status: Active; Mounting Type: Through Hole; Type: Header, Male Pins, Shrouded (4 Side); Operating Temperature: -40°C ~ 115°C; Price: 0.67; LastUpdated: 2019-12-16 19:15:58.650; ComponentLink1Description: Datasheet; Positions Per Level: 5; Lifecycle Status: 0; Contact Mating Finish: Tin; Series: 06-381; ComponentLink1URL: http://portal.fciconnect.com/Comergent//fci/drawing/oqxx32x100j0g.pdf; Termination Style: Solder; Manufacturer Part Number: OQ0532510000G; Component Type: 接线端子
footprint FCI 06-381-5PIN (FCI Pluggable Terminal Block)
pins: 1, 2, 3, 4, 5

## KF2EDGR-3.81-6P
designator J?
TERM BLOCK HDR 6POS 90DEG 3.81MM; Manufacturer: Amphenol Anytek; Part Number: OQ0632510000G; Pitch: 0.150" (3.81mm); Positions Per Level: 6; Voltage - UL: 300V; Number of Levels: 1; Header Orientation: 90°, Right Angle; Current - UL: 10A; LastUpdated: 2019-12-16 19:16:11.480; Packaging: Bulk; Price: 0.8; Color: Green; ComponentLink1Description: Datasheet; Lifecycle Status: 0; Series: 06-381; Type: Header, Male Pins, Shrouded (4 Side); Minimum Order: 1; Part Status: Active; Operating Temperature: -40°C ~ 115°C; Termination Style: Solder; ComponentLink1URL: http://portal.fciconnect.com/Comergent//fci/drawing/oqxx32x100j0g.pdf; Mounting Type: Through Hole; Number of Positions: 6; Contact Mating Finish: Tin; Manufacturer Part Number: OQ0632510000G; Component Type: 接线端子
footprint FCI 06-381-6PIN (FCI Pluggable Terminal Block)
pins: 1, 2, 3, 4, 5, 6

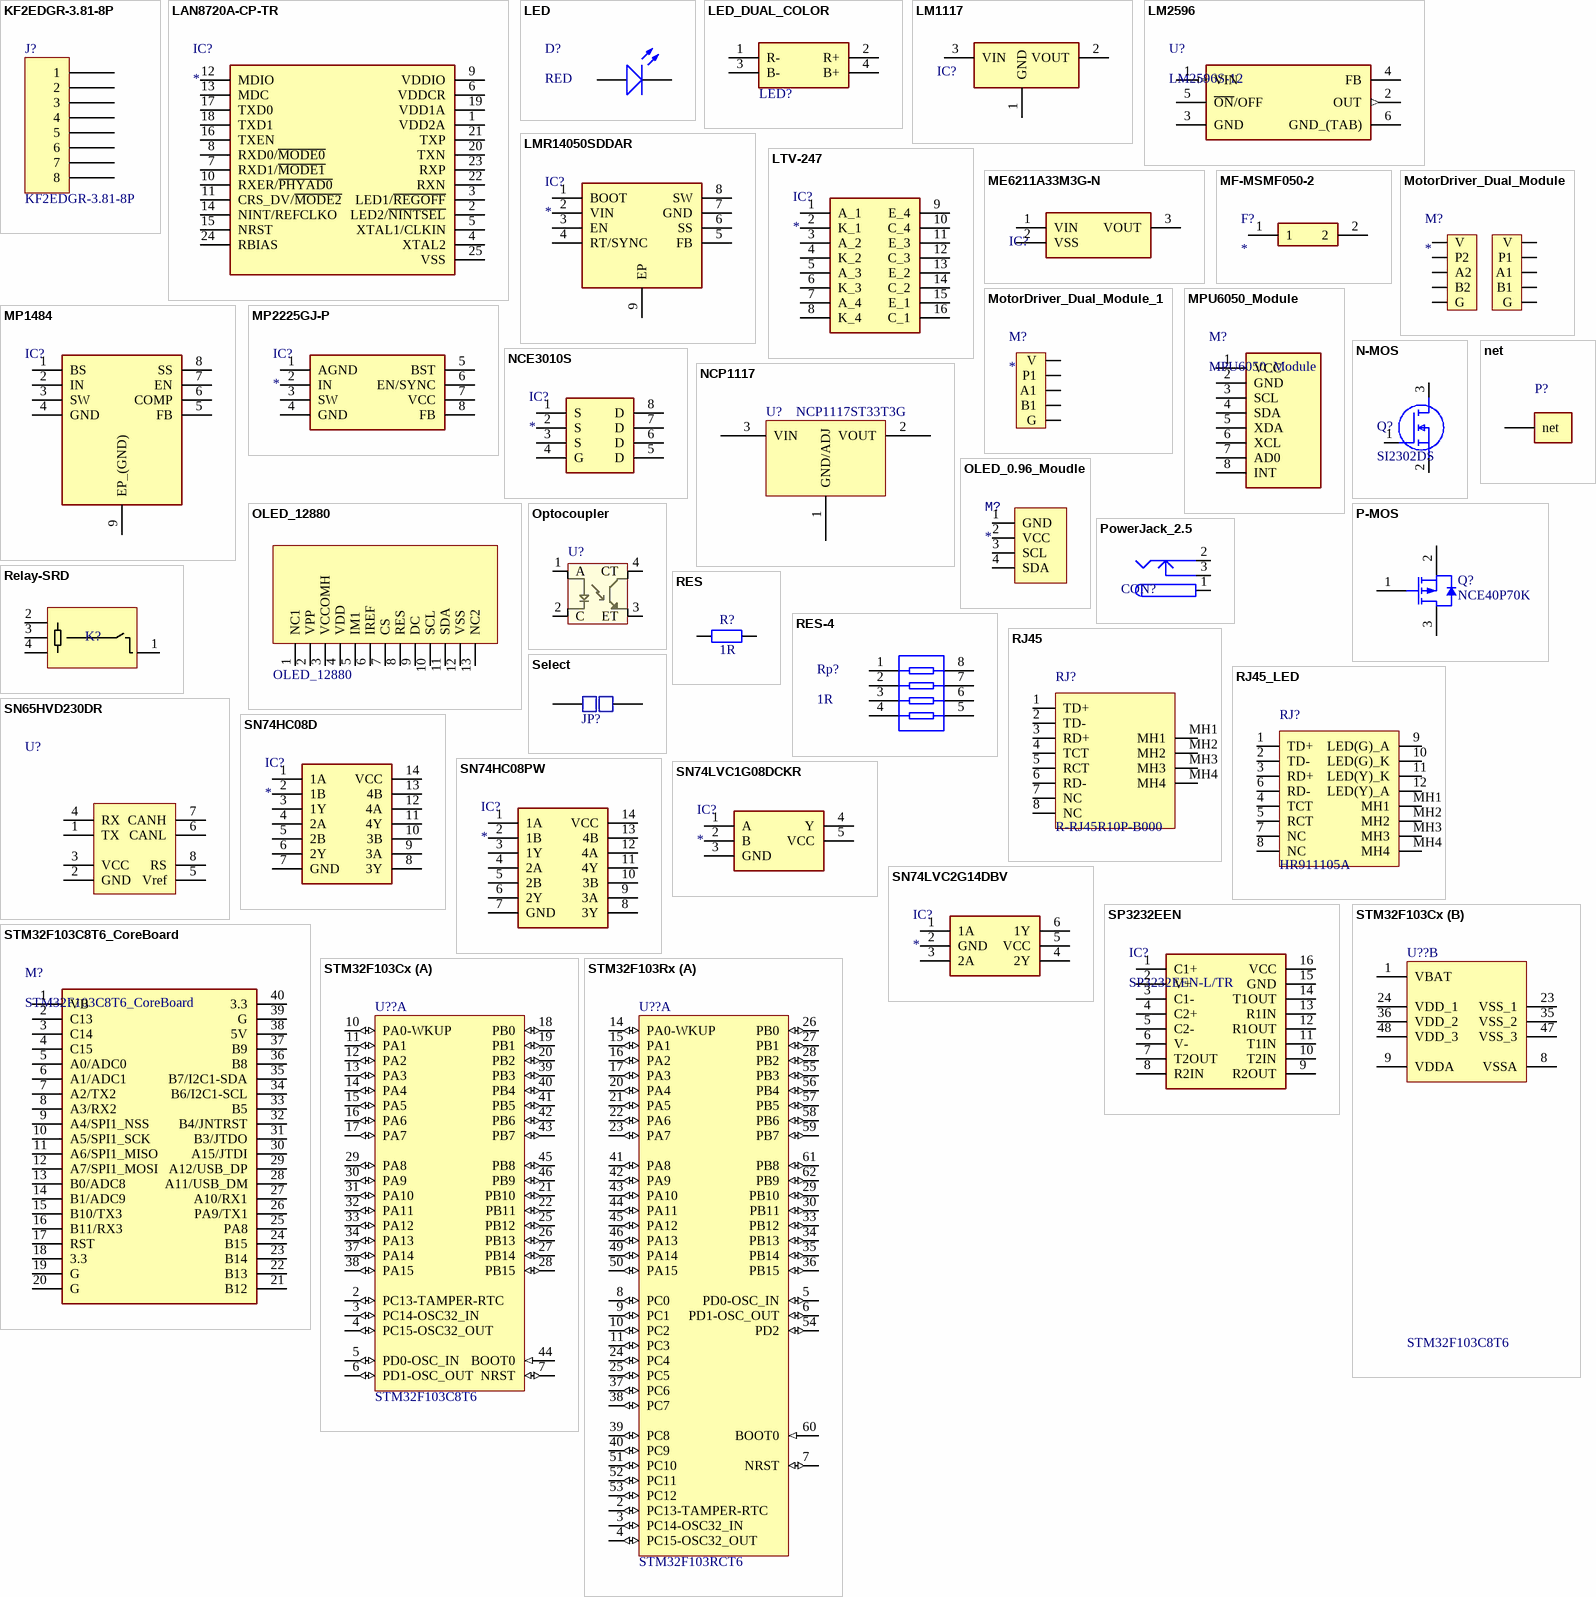
[diagram p2: symbols KF2EDGR-3.81-8P to STM32F103Rx]

## KF2EDGR-3.81-8P
designator J?
TERM BLOCK HDR 8POS 90DEG 3.81MM; Part Number: OQ0832510000G; Manufacturer: Amphenol Anytek; Number of Positions: 8; Pitch: 0.150" (3.81mm); Current - UL: 10A; Header Orientation: 90°, Right Angle; Voltage - UL: 300V; Number of Levels: 1; Contact Mating Finish: Tin; Type: Header, Male Pins, Shrouded (4 Side); Operating Temperature: -40°C ~ 115°C; Part Status: Active; Minimum Order: 1; Mounting Type: Through Hole; Positions Per Level: 8; Price: 1.06; Lifecycle Status: 0; Series: 06-381; Color: Green; LastUpdated: 2019-12-16 19:16:43.017; Packaging: Bulk; Termination Style: Solder; ComponentLink1Description: Datasheet; ComponentLink1URL: http://www.anytek.com.tw/UserUpFiles/20120526/jMKyryrC5T7A.pdf; Manufacturer Part Number: OQ0832510000G; Component Type: 接线端子
footprint FCI 06-381-8PIN (FCI Pluggable Terminal Block)
pins: 1, 2, 3, 4, 5, 6, 7, 8

## LAN8720A-CP-TR
designator IC?
Integrated Circuit; Manufacturer_Name: Microchip; Manufacturer_Part_Number: LAN8720A-CP-TR; Datasheet Link: https://componentsearchengine.com/Datasheets/1/LAN8720A-CP-TR.pdf; Height: 1mm; Mouser Part Number: 886-LAN8720A-CP-TR; Mouser Price/Stock: https://www.mouser.co.uk/ProductDetail/Microchip-Technology/LAN8720A-CP-TR?qs=pA5MXup5wxG3QiSvrqf%2FHQ%3D%3D; Arrow Part Number: LAN8720A-CP-TR; Arrow Price/Stock: https://www.arrow.com/en/products/lan8720a-cp-tr/microchip-technology?region=nac
footprint QFN-24-4x4 (QFN, 24-Leads, Body 4.00x4.00mm, Pitch 0.50mm, Thermal Pad 2.70x2.60mm, IPC Medium Density)
pins: 1 VDD2A, 2 LED2/~{NINTSEL}, 3 LED1/~{REGOFF}, 4 XTAL2, 5 XTAL1/CLKIN, 6 VDDCR, 7 RXD1/~{MODE1}, 8 RXD0/~{MODE0}, 9 VDDIO, 10 RXER/~{PHYAD0}, 11 CRS_DV/~{MODE2}, 12 MDIO, 13 MDC, 14 NINT/REFCLKO, 15 NRST, 16 TXEN, 17 TXD0, 18 TXD1, 19 VDD1A, 20 TXN, 21 TXP, 22 RXN, 23 RXP, 24 RBIAS, 25 VSS

## LED
designator D?, comment RED
发光二极管; ComponentLink1Description: 供应商链接; ComponentLink1URL: http://www.szlcsc.com/product/details_2663.html; Package: 0603; Supplier: LC; SuppliersPartNumber: C2290
footprint LED_0805
footprint LED-0603; pin to pad A>1 K>2
footprint LED-0402; pin to pad A>1 K>2
pins: A, K

## LED_DUAL_COLOR
designator LED?  (value not drawn)
红蓝双色LED; Manufacturer_Name: Wurth Elektronik; Manufacturer_Part_Number: 150120M173000; Datasheet Link: https://www.we-online.com/catalog/datasheet/150120M173000.pdf; Height: 0.85mm; Mouser Part Number: 710-150120M173000; Mouser Price/Stock: https://www.mouser.co.uk/ProductDetail/Wurth-Elektronik/150120M173000/?qs=GedFDFLaBXG2uqjQCP7dEg%3D%3D
footprint LED_3528_DUAL_COLOR (红蓝双色LED)
pins: 1 R-, 2 R+, 3 B-, 4 B+

## LM1117
designator IC?  (value not drawn)
线性稳压; Manufacturer_Name: Nexperia; Manufacturer_Part_Number: SI2302DS; Datasheet Link: https://assets.nexperia.com/documents/data-sheet/SI2302DS.pdf; Height: 1.1mm; Mouser Part Number: N/A; Mouser Price/Stock: https://www.mouser.com/Search/Refine.aspx?Keyword=N%2FA; RS Part Number: 7983053P; RS Price/Stock: http://uk.rs-online.com/web/p/products/7983053P
footprint SOT-89-3
pins: 1 GND, 2 VOUT, 3 VIN

## LM2596
designator U?, comment LM2596S-12
稳压芯片; Manufacturer_Name: ON Semiconductor; Manufacturer_Part_Number: LM2596DSADJG; Datasheet Link: http://www.onsemi.com/pub/Collateral/936A-02.PDF; Mouser Part Number: 863-LM2596DSADJG; Mouser Price/Stock: https://www.mouser.co.uk/ProductDetail/ON-Semiconductor/LM2596DSADJG?qs=atIEnC%2F2K4W1Dy%252BFjrRjIQ%3D%3D; Arrow Part Number: LM2596DSADJG; Arrow Price/Stock: https://www.arrow.com/en/products/lm2596dsadjg/on-semiconductor
footprint TO-263-5
pins: 1 VIN (in), 2 OUT (out), 3 GND (power), 4 FB, 5 ~{ON}/OFF, 6 GND_(TAB) (power)

## LMR14050SDDAR
designator IC?
Buck 芯片; Manufacturer_Name: Texas Instruments; Manufacturer_Part_Number: LMR14050SDDAR; Datasheet Link: http://www.ti.com/lit/gpn/lmr14050; Height: 1.7mm; Mouser Part Number: 595-LMR14050SDDAR; Mouser Price/Stock: https://www.mouser.co.uk/ProductDetail/Texas-Instruments/LMR14050SDDAR?qs=G5PZsBocSXuzvyUQdQ5q2Q%3D%3D; Arrow Part Number: LMR14050SDDAR; Arrow Price/Stock: https://www.arrow.com/en/products/lmr14050sddar/texas-instruments?region=nac
footprint HSOIC-8
pins: 1 BOOT, 2 VIN, 3 EN, 4 RT/SYNC, 5 FB, 6 SS, 7 GND, 8 SW, 9 EP

## LTV-247
designator IC?
Integrated Circuit; Manufacturer_Name: Lite-On; Manufacturer_Part_Number: LTV-247; Datasheet Link: http://optoelectronics.liteon.com/upload/download/DS70-2009-0014/LTV-2X7%20sereis%20Mar17.PDF; Height: 2.42mm; Mouser Part Number: 859-LTV-247; Mouser Price/Stock: https://www.mouser.co.uk/ProductDetail/Lite-On/LTV-247?qs=9ayhpukWNmvWpoxQBzWkFA%3D%3D; Arrow Part Number: LTV-247; Arrow Price/Stock: https://www.arrow.com/en/products/ltv-247/lite-on-technology?region=nac
footprint LTV247
pins: 1 A_1, 2 K_1, 3 A_2, 4 K_2, 5 A_3, 6 K_3, 7 A_4, 8 K_4, 9 E_4, 10 C_4, 11 E_3, 12 C_3, 13 E_2, 14 C_2, 15 E_1, 16 C_1

## ME6211A33M3G-N
designator IC?  (value not drawn)
线性稳压; Manufacturer_Name: Nexperia; Manufacturer_Part_Number: SI2302DS; Datasheet Link: https://assets.nexperia.com/documents/data-sheet/SI2302DS.pdf; Height: 1.1mm; Mouser Part Number: N/A; Mouser Price/Stock: https://www.mouser.com/Search/Refine.aspx?Keyword=N%2FA; RS Part Number: 7983053P; RS Price/Stock: http://uk.rs-online.com/web/p/products/7983053P
footprint SOT-23-3
pins: 1 VIN, 2 VSS, 3 VOUT

## MF-MSMF050-2
designator F?
自恢复保险丝; Manufacturer_Name: Bourns; Manufacturer_Part_Number: MF-MSMF050-2; Allied_Number: 70153466; Datasheet Link: https://www.bourns.com/pdfs/mfmsmf.pdf; Height: 0.85mm; Mouser Part Number: 652-MF-MSMF050-2; Mouser Price/Stock: https://www.mouser.com/Search/Refine.aspx?Keyword=652-MF-MSMF050-2; RS Part Number: 6478156P; RS Price/Stock: http://uk.rs-online.com/web/p/products/6478156P; Allied Price/Stock: https://www.alliedelec.com/bourns-mf-msmf050-2/70153466/
footprint FUSE_1812
pins: 1, 2

## MotorDriver_Dual_Module
designator M?
https://item.taobao.com/item.htm?spm=a1z09.2.0.0.1d3d2e8dJ3GH0f&id=632838115364&_u=jm1j8an6841
footprint MotorDriver_Dual_Module (https://item.taobao.com/item.htm?spm=a1z09.2.0.0.1d3d2e8dJ3GH0f&id=632838115364&_u=jm1j8an6841)
pins: 1 V, 2 P1, 3 A1, 4 B1, 5 G, 6 V, 7 P2, 8 A2, 9 B2, 10 G

## MotorDriver_Dual_Module_1
designator M?
https://item.taobao.com/item.htm?spm=a1z09.2.0.0.1d3d2e8dJ3GH0f&id=632838115364&_u=jm1j8an6841
footprint MotorDriver_Module (https://item.taobao.com/item.htm?spm=a1z09.2.0.0.1d3d2e8dJ3GH0f&id=632838115364&_u=jm1j8an6841)
pins: 1 V, 2 P1, 3 A1, 4 B1, 5 G

## MP1484
designator IC?  (value not drawn)
同步降压稳压器; Manufacturer_Name: Monolithic Power Systems (MPS); Manufacturer_Part_Number: MP1484EN-LF; Datasheet Link: http://www.mouser.com/datasheet/2/277/MP1484-1186021.pdf; Height: 1.7mm; Mouser Part Number: 946-MP1484ENLF; Mouser Price/Stock: https://www.mouser.com/Search/Refine.aspx?Keyword=946-MP1484ENLF
footprint SOIC_8_PAD
pins: 1 BS, 2 IN, 3 SW, 4 GND, 5 FB, 6 COMP, 7 EN, 8 SS, 9 EP_(GND)

## MP2225GJ-P
designator IC?
稳压芯片; Manufacturer_Name: Monolithic Power Systems (MPS); Manufacturer_Part_Number: MP2225GJ-P; Datasheet Link: https://altium.componentsearchengine.com/Datasheets/1/MP2225GJ-P.pdf; Height: 1mm; Mouser Part Number: 946-MP2225GJ-P; Mouser Price/Stock: https://www.mouser.co.uk/ProductDetail/Monolithic-Power-Systems-MPS/MP2225GJ-P?qs=CjgjetG5vV6PhweCipdhAQ%3D%3D
footprint TSOT-23-8
pins: 1 AGND, 2 IN, 3 SW, 4 GND, 5 BST, 6 EN/SYNC, 7 VCC, 8 FB

## MPU6050_Module
designator M?
MPU6050 陀螺仪
footprint MPU6050_Module
footprint MPU6050_Module_SMD
pins: 1 VCC, 2 GND, 3 SCL, 4 SDA, 5 XDA, 6 XCL, 7 AD0, 8 INT

## N-MOS
designator Q?, comment SI2302DS
N 沟道 MOS; Manufacturer_Name: Nexperia; Datasheet Link: https://assets.nexperia.com/documents/data-sheet/SI2302DS.pdf; Height: 1.1mm; Manufacturer_Part_Number: SI2302DS; Mouser Part Number: N/A; Mouser Price/Stock: https://www.mouser.com/Search/Refine.aspx?Keyword=N%2FA; RS Part Number: 7983053P; RS Price/Stock: http://uk.rs-online.com/web/p/products/7983053P
footprint SOT-23-3
footprint TO-252 (贴片MOS管)
footprint D2PAK-3 (D-PAK/TO-263-3; 3 Leads (1 Cropped); Body 14.7 (inc. leads) x 10.2 mm (LxW max))
pins: 1 G, 2 S, 3 D

## NCE3010S
designator IC?
30V / 10A N 沟道 MOS; Manufacturer_Name: Microchip; Manufacturer_Part_Number: ATTINY85-20PU; Datasheet Link: https://componentsearchengine.com/Datasheets/2/ATTINY85-20PU.pdf; Height: 5.334mm; Mouser Part Number: 556-ATTINY85-20PU; Mouser Price/Stock: https://www.mouser.com/Search/Refine.aspx?Keyword=556-ATTINY85-20PU; RS Part Number: 1331672P; RS Price/Stock: http://uk.rs-online.com/web/p/products/1331672P
footprint SOP-8
pins: 1 S, 2 S, 3 S, 4 G, 5 D, 6 D, 7 D, 8 D

## NCP1117
designator U?, comment NCP1117ST33T3G
NCP1117, NCV1117. 1.0 A Low-Dropout Positive  Fixed and Adjustable  Voltage Regulators
footprint SOT-223
pins: 1 GND/ADJ "Ground or Adjust", 2 VOUT "Voltage Output", 3 VIN "Voltage Input"

## net
designator P?
接线端子; Manufacturer_Name: Keystone Electronics; Manufacturer_Part_Number: 1026; Allied_Number: 70182086; Datasheet Link: http://www.keyelco.com/product-pdf.cfm?p=721; Mouser Part Number: 534-1026; Mouser Price/Stock: https://www.mouser.com/Search/Refine.aspx?Keyword=534-1026; RS Part Number: 1142133; RS Price/Stock: http://uk.rs-online.com/web/p/products/1142133; Allied Price/Stock: http://www.alliedelec.com/keystone-electronics-1026/70182086/
footprint PCB-25 (接线端子 86A)
footprint PCB-36 (接线端子 180A)
pins: 1 net

## OLED_0.96_Moudle
designator M?
OLED 屏
footprint OLED_0.96_Moudle
pins: 1 GND, 2 VCC, 3 SCL, 4 SDA

## OLED_12880
designator M?
OLED屏
footprint OLED_0.78INCH_12880
pins: 1 NC1, 2 VPP, 3 VCCOMH, 4 VDD, 5 IM1, 6 IREF, 7 CS, 8 RES, 9 DC, 10 SCL, 11 SDA, 12 VSS, 13 NC2

## Optocoupler
designator U?, comment EL2501  (value not drawn)
光耦隔离器; MF: Everlight Electronics; MP: EL817S1_A__TU_-V; Package: SMD-4 Everlight Electronics; Price: None; Availability: Unavailable; SnapEDA_Link: https://www.snapeda.com/parts/EL817S1%28A%29%28TU%29-V/Everlight%20Electronics%20Co%20Ltd/view-part/?ref=snap; Value: *
footprint SMD-4
pins: 1 A, 2 C, 3 ET, 4 CT

## P-MOS
designator Q?, comment NCE40P70K
Manufacturer: NCE Power; Mounting Technology: SM; Package Reference: SOT23-3; Case/Package: SOT23-3; Package Description: 3-Pin Small Outline Transistor, Body 2.9 x 1.3 mm, Pitch 0.95 mm; Datasheet Version: Rev. 1.1, 07/2014; RoHS Compliant: Unknown; Datasheet URL: http://www.ncepower.com/Upload/MOSFET/mos1/55vpmos/NCE3407Adatasheet-17275285683.pdf; Component Type: Transistors
footprint TO-252 (贴片MOS管)
pins: 1 GATE, 2 SOURCE, 3 DRAIN

## PowerJack_2.5
designator CON?  (value not drawn)
DC 电源插座
footprint KLD_0202
pins: 1 (power), 2 (power), 3 (power)

## Relay-SRD
designator K?, comment SRD-5VDC-SL-A  (value not drawn)
松乐 SDR 继电器; Manufacturer_Name: TE Connectivity; Manufacturer_Part_Number: 1-1393258-5; Datasheet Link: http://www.te.com/commerce/DocumentDelivery/DDEController?Action=showdoc&DocId=Data+Sheet%7FSR2M%7F1116%7Fpdf%7FEnglish%7FENG_DS_SR2M_1116.pdf%7F1-1393258-5; Height: 25mm
footprint Relay-SRD (松乐 SDR 继电器)
pins: 1, 2, 3, 4

## RES
designator R?, comment 1R
贴片电阻; Package: 0805; Supplier: LC; SuppliersPartNumber: C17798
footprint R-0603
footprint R-0805
footprint R-1206
footprint R-2512
footprint Axial_D20
footprint R-0402
pins: 1, 2

## RES-4
designator Rp?, comment 1R
贴片排阻; Package: 0603*4; Supplier: LC; SuppliersPartNumber: C25510
pins: 1, 2, 3, 4, 5, 6, 7, 8

## RJ45
designator RJ?, comment R-RJ45R10P-B000
footprint RRJ45R10PB000
pins: 1 TD+, 2 TD-, 3 RD+, 4 TCT, 5 RCT, 6 RD-, 7 NC, 8 NC, MH1, MH2, MH3, MH4

## RJ45_LED
designator RJ?, comment HR911105A
footprint HR911105A
pins: 1 TD+, 2 TD-, 3 RD+, 4 TCT, 5 RCT, 6 RD-, 7 NC, 8 NC, 9 LED(G)_A, 10 LED(G)_K, 11 LED(Y)_K, 12 LED(Y)_A, MH1, MH2, MH3, MH4

## Select
designator JP?  (value not drawn)
选择焊点
footprint 选择焊点-0402
pins: 1, 2

## SN65HVD230DR
designator U?  (value not drawn)
CAN 控制器（3.3V）
footprint SOIC_8
pins: 1 TX, 2 GND, 3 VCC, 4 RX, 5 Vref, 6 CANL, 7 CANH, 8 RS

## SN74HC08D
designator IC?
Integrated Circuit; Manufacturer_Name: Texas Instruments; Manufacturer_Part_Number: SN74HC08D; Datasheet Link: http://docs-emea.rs-online.com/webdocs/0b80/0900766b80b80bbb.pdf; Height: 1.75mm; Arrow Part Number: SN74HC08D; Arrow Price/Stock: https://www.arrow.com/en/products/sn74hc08d/texas-instruments; Mouser Part Number: 595-SN74HC08D; Mouser Price/Stock: https://www.mouser.co.uk/ProductDetail/Texas-Instruments/SN74HC08D?qs=st7IWvlL5%2FjpJg0KgrS5HQ%3D%3D
footprint SOIC_14
pins: 1 1A, 2 1B, 3 1Y, 4 2A, 5 2B, 6 2Y, 7 GND, 8 3Y, 9 3A, 10 3B, 11 4Y, 12 4A, 13 4B, 14 VCC

## SN74HC08PW
designator IC?
Integrated Circuit; Manufacturer_Name: Texas Instruments; Manufacturer_Part_Number: SN74HCT08PW; Datasheet Link: http://www.ti.com/lit/gpn/SN74HCT08; Height: 1.2mm; Mouser Part Number: 595-SN74HCT08PW; Mouser Price/Stock: https://www.mouser.co.uk/ProductDetail/Texas-Instruments/SN74HCT08PW?qs=7KMwW2o1%252BmRuz7pKtn1cmg%3D%3D; Arrow Part Number: SN74HCT08PW; Arrow Price/Stock: https://www.arrow.com/en/products/sn74hct08pw/texas-instruments
footprint TSSOP14
pins: 1 1A, 2 1B, 3 1Y, 4 2A, 5 2B, 6 2Y, 7 GND, 8 3Y, 9 3A, 10 3B, 11 4Y, 12 4A, 13 4B, 14 VCC

## SN74LVC1G08DCKR
designator IC?
与门; Manufacturer_Name: Texas Instruments; Manufacturer_Part_Number: SN74LVC1G08DCKR; Datasheet Link: http://www.ti.com/lit/gpn/sn74lvc1g08; Height: 1.1mm; Mouser Part Number: 595-SN74LVC1G08DCKR; Mouser Price/Stock: https://www.mouser.co.uk/ProductDetail/Texas-Instruments/SN74LVC1G08DCKR?qs=sbcp%2F4gpy0%2F8FFQ%252BRQ5MTw%3D%3D; Arrow Part Number: SN74LVC1G08DCKR; Arrow Price/Stock: https://www.arrow.com/en/products/sn74lvc1g08dckr/texas-instruments?region=nac
footprint SC-70-5
pins: 1 A, 2 B, 3 GND, 4 Y, 5 VCC

## SN74LVC2G14DBV
designator IC?
变换器; Manufacturer_Name: Texas Instruments; Manufacturer_Part_Number: SN74LVC2G14DBVR; Datasheet Link: http://componentsearchengine.com/Datasheets/3/SN74LVC2G14DBVR.pdf; Height: 1.45mm; Arrow Part Number: SN74LVC2G14DBVR; Arrow Price/Stock: https://www.arrow.com/en/products/sn74lvc2g14dbvr/texas-instruments; Mouser Part Number: 595-SN74LVC2G14DBVR; Mouser Price/Stock: https://www.mouser.co.uk/ProductDetail/Texas-Instruments/SN74LVC2G14DBVR?qs=q2XTDbzbm6DXbZiJ8Yzjpw%3D%3D
footprint SOT-23-6
pins: 1 1A, 2 GND, 3 2A, 4 2Y, 5 VCC, 6 1Y

## SP3232EEN
designator IC?, comment SP3232EEN-L/TR
RS232 芯片; Manufacturer_Name: MaxLinear; Datasheet Link: https://www.maxlinear.com/ds/sp3222e_sp3232e.pdf; Height: 1.75mm; Manufacturer_Part_Number: SP3232EEN-L/TR; Mouser Part Number: 701-SP3232EEN-L/TR; Mouser Price/Stock: https://www.mouser.co.uk/ProductDetail/MaxLinear/SP3232EEN-L-TR?qs=Hy8V1%2FADhVKNh9v9NvoeCw%3D%3D; Arrow Part Number: SP3232EEN-L/TR; Arrow Price/Stock: https://www.arrow.com/en/products/sp3232een-ltr/maxlinear-inc
footprint SOIC-16_150mil
pins: 1 C1+, 2 V+, 3 C1-, 4 C2+, 5 C2-, 6 V-, 7 T2OUT, 8 R2IN, 9 R2OUT, 10 T2IN, 11 T1IN, 12 R1OUT, 13 R1IN, 14 T1OUT, 15 GND, 16 VCC

## STM32F103C8T6_CoreBoard
designator M?
STM32F103C8T6 核心板
footprint STM32F103C8T6_CoreBoard (最小系统板)
pins: 1 VB, 2 C13, 3 C14, 4 C15, 5 A0/ADC0, 6 A1/ADC1, 7 A2/TX2, 8 A3/RX2, 9 A4/SPI1_NSS, 10 A5/SPI1_SCK, 11 A6/SPI1_MISO, 12 A7/SPI1_MOSI, 13 B0/ADC8, 14 B1/ADC9, 15 B10/TX3, 16 B11/RX3, 17 RST, 18 3.3, 19 G, 20 G, 21 B12, 22 B13, 23 B14, 24 B15, 25 PA8, 26 PA9/TX1, 27 A10/RX1, 28 A11/USB_DM, 29 A12/USB_DP, 30 A15/JTDI, 31 B3/JTDO, 32 B4/JNTRST, 33 B5, 34 B6/I2C1-SCL, 35 B7/I2C1-SDA, 36 B8, 37 B9, 38 5V, 39 G, 40 3.3

## STM32F103Cx
designator U??, comment STM32F103C8T6
单片机; PartNumber: STM32F100C8T6B; A/D Converter: 1x12-bit (10 Channel); Core: ARM Cortex-M3; D/A Converter: 2x12-bit (2 Channel); FLASH Size (Prog) (kB): 64; I/Os (High Current): 37; Internal RAM Size (kB): 8; Operating Frequency(F) (Processor speed) (MHz): 24; Packing: Tray; Supply Voltage(Vcc) min (V): 2; DatasheetVersion: Rev. 7; PackageVersion: Rev. 6, 06/2013; PackageReference: LQFP48; PackageDescription: 48-Pin Low Profile Quad Flat Package, 7 x 7 mm Body, 0.5 mm Pitch; Supplier 1: Digi-Key; Supplier Part Number 1: 497-10499-ND; Supplier 2: Farnell; Supplier Part Number 2: 1838511; Supplier 3: Newark; Supplier Part Number 3: 76R0988; Supplier 4: Mouser; Supplier Part Number 4: 511-STM32F100C8T6B; Mounting Technology: Surface Mount; ComponentLink1Description: Manufacturer URL; ComponentLink1URL: http://www.st.com/web/en/home.html; ComponentLink2Description: Datasheet; ComponentLink2URL: http://www.st.com/st-web-ui/static/active/en/resource/technical/document/datasheet/CD00251732.pdf; ComponentLink3Description: Package Specification; ComponentLink3URL: http://www.st.com/st-web-ui/static/active/en/resource/technical/document/datasheet/DM00058181.pdf
footprint LQFP_48
part A pins: 2 PC13-TAMPER-RTC (io) "PC13-TAMPER-RTC/PC13/TAMPER-RTC", 3 PC14-OSC32_IN (io) "PC14-OSC32_IN/PC14/OSC32_IN", 4 PC15-OSC32_OUT (io) "PC15-OSC32_OUT/PC15/OSC32_OUT", 5 PD0-OSC_IN (io) "PD0/OSC_IN", 6 PD1-OSC_OUT (io) "PD1/OSC_OUT", 7 NRST (io), 10 PA0-WKUP (io) "PA0-WKUP/PA0/WKUP/USART2_CTS/ADC1_IN0/TIM2_CH1_ETR", 11 PA1 (io) "PA1/USART2_RTS/ADC1_IN1/TIM2_CH2", 12 PA2 (io) "PA2/USART2_TX/ADC1_IN2/TIM2_CH3/TIM15_CH1", 13 PA3 (io) "PA3/USART2_RX/ADC1_IN3/TIM2_CH4/TIM15_CH2", 14 PA4 (io) "PA4/SPI1_NSS/ADC1_IN4/USART2_CK/DAC1_OUT", 15 PA5 (io) "PA5/SPI1_SCK/ADC1_IN5/DAC2_OUT", 16 PA6 (io) "PA6/SPI1_MISO/ADC1_IN6/TIM3_CH1/TIM1_BKIN/TIM16_CH1", 17 PA7 (io) "PA7/SPI1_MOSI/ADC1_IN7/TIM3_CH2/TIM1_CH1N/TIM17_CH1", 18 PB0 (io) "PB0/ADC1_IN8/TIM3_CH3/TIM1_CH2N", 19 PB1 (io) "PB1/ADC1_IN9/TIM3_CH4/TIM1_CH3N", 20 PB2 (io) "PB2/BOOT1", 21 PB10 (io) "PB10/I2C2_SCL/USART3_TX/TIM2_CH3/HDMI_CEC", 22 PB11 (io) "PB11/I2C2_SDA/USART3_RX/TIM2_CH4", 25 PB12 (io) "PB12/SPI2_NSS/I2C2_SMBA/TIM1_BKIN/USART3_CK", 26 PB13 (io) "PB13/SPI2_SCK/TIM1_CH1N/USART3_CTS", 27 PB14 (io) "PB14/SPI2_MISO/TIM1_CH2N/USART3_RTS/TIM15_CH1", 28 PB15 (io) "PB15/SPI2_MOSI/TIM1_CH3N/TIM15_CH1N/TIM15_CH2", 29 PA8 (io) "PA8/USART1_CK/MCO/TIM1_CH1", 30 PA9 (io) "PA9/USART1_TX/TIM1_CH2/TIM15_BKIN", 31 PA10 (io) "PA10/USART1_RX/TIM1_CH3/TIM17_BKIN", 32 PA11 (io) "PA11/USART1_CTS/TIM1_CH4", 33 PA12 (io) "PA12/USART1_RTS/TIM1_ETR", 34 PA13 (io) "PA13/JTMS-SWDIO", 37 PA14 (io) "PA14/JTCK/SWCLK", 38 PA15 (io) "PA15/JTDI/TIM2_CH1_ETR/SPI1_NSS", 39 PB3 (io) "PB3/JTDO/TIM2_CH2/TRACESWO/SPI1_SCK", 40 PB4 (io) "PB4/NJTRST/TIM3_CH1/SPI1_MISO", 41 PB5 (io) "PB5/I2C1_SMBA/TIM16_BKIN/TIM3_CH2/SPI1_MOSI", 42 PB6 (io) "PB6/I2C1_SCL/TIM4_CH1/TIM16_CH1N/USART1_TX", 43 PB7 (io) "PB7/I2C1_SDA/TIM17_CH1N/TIM4_CH2/USART1_RX", 44 BOOT0 (in), 45 PB8 (io) "PB8/TIM4_CH3/TIM16_CH1/CEC/I2C1_SCL", 46 PB9 (io) "PB9/TIM4_CH4/TIM17_CH1/I2C1_SDA"
part B pins: 1 VBAT (power), 8 VSSA (power), 9 VDDA (power), 23 VSS_1 (power), 24 VDD_1 (power), 35 VSS_2 (power), 36 VDD_2 (power), 47 VSS_3 (power), 48 VDD_3 (power)

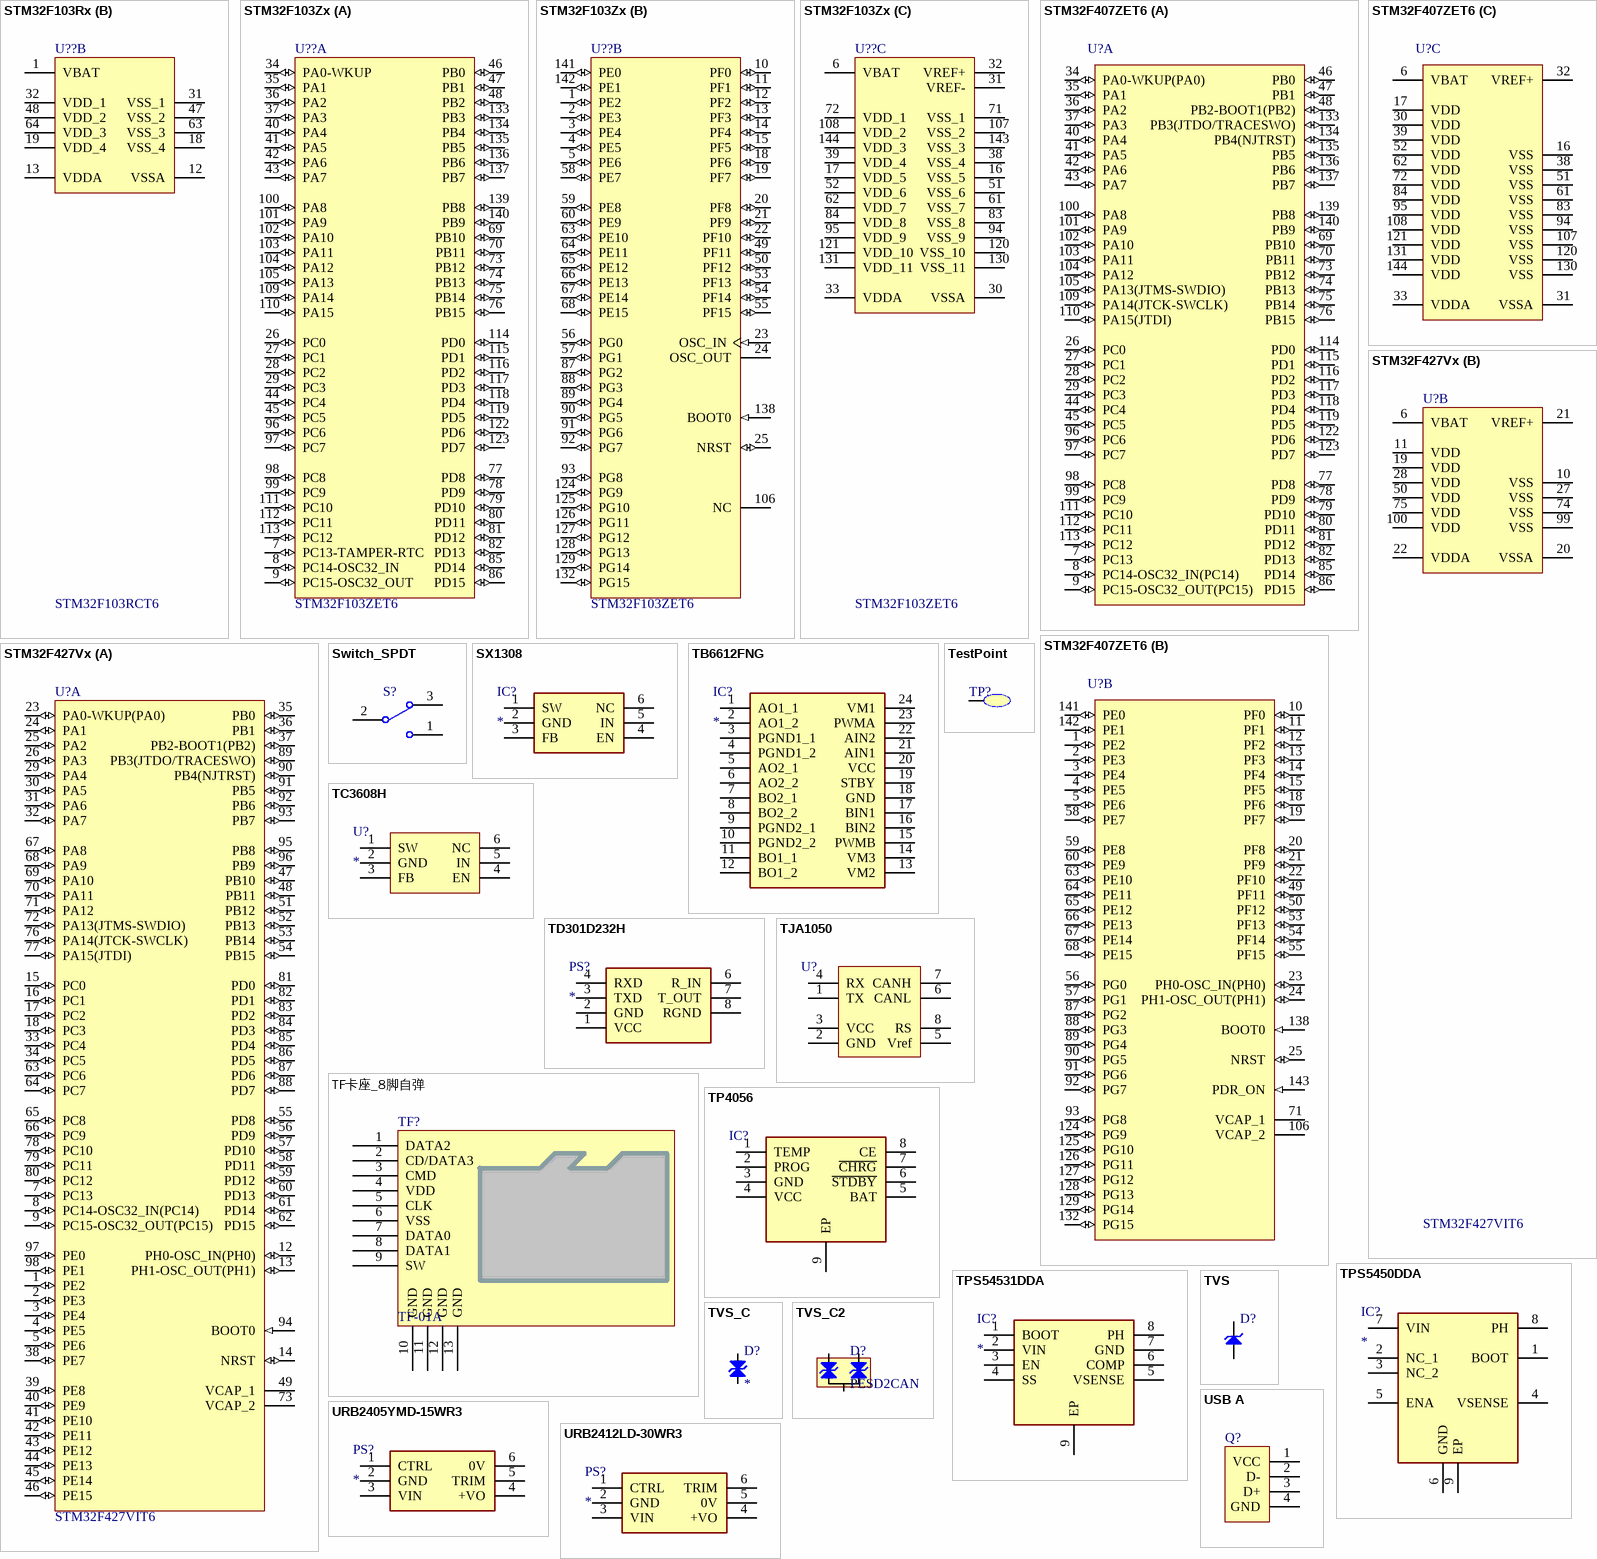
[diagram p3: symbols STM32F103Rx to USB A]